# Altium footprint library SAMTEC_TSW-106-07-G-S.PcbLib: 1 footprints
Each footprint in its own frame and in the unit in brackets; x right, y up, seen from the top. Pads: shape width x height; smd on the part's side, far side on the other; paste and mask are expansions set on the pad; w line width, h text height; cw(c..) or ccw(c..) is an arc to the next point about the centre after c.
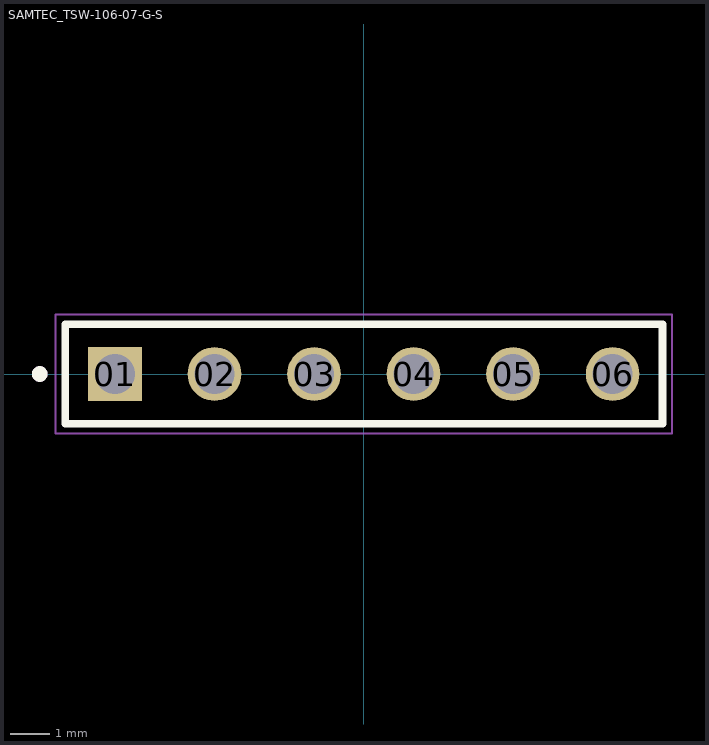
[diagram p0: the footprint, top view; thin cyan lines are the x and y axes]

## SAMTEC_TSW-106-07-G-S [mm]
pads (6):
  rect 1.37x1.37 hole 1.02: 01(-6.35,0)
  round 1.37 hole 1.02: 02(-3.81,0) 03(-1.27,0) 04(1.27,0) 05(3.81,0) 06(6.35,0)
Top Overlay:
  circle w0.2: c-8.27,0 r0.1
  lines w0.2: -7.62,-1.27 7.62,-1.27 7.62,1.27 -7.62,1.27 -7.62,-1.27
Mechanical 13:
  circle w0.2: c-8.27,0 r0.1
  lines w0.1: -7.62,-1.27 -7.62,1.27 ; -7.62,-1.27 7.62,-1.27 ; -7.62,-1.27 -7.62,1.27 ; -7.62,1.27 7.62,1.27 ; -7.62,1.27 7.62,1.27 ; 7.62,-1.27 7.62,1.27 ; 7.62,-1.27 7.62,1.27
Mechanical 15:
  lines w0.05: -7.87,-1.52 7.87,-1.52 7.87,1.52 -7.87,1.52 -7.87,-1.52
3D body "Connector Header Through Hole 6 position.stp": height 2.04, standoff -8.88, extent -7.683,-1.27 7.683,1.27